# EAGLE library part SIC823 (library silicon-labs)
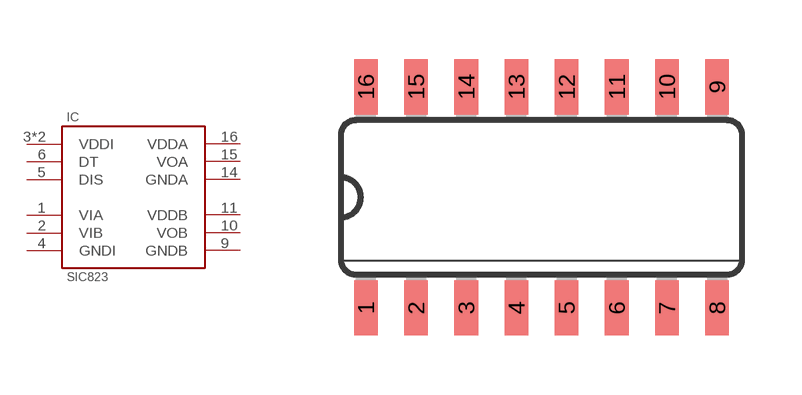
[diagram p0: symbol with the pads of SO16; footprint SO16]

Designator prefix IC

## SIC823N  [SO16]
1  VIA  pas
2  VIB  pas
3  VDDI  pas
4  GNDI  pas
5  DIS  pas
6  DT  pas
8  VDDI  pas
9  GNDB  pas
10  VOB  pas
11  VDDB  pas
14  GNDA  pas
15  VOA  pas
16  VDDA  pas

## Footprint SO16 (pad centres in mm)
Small Outline package 150 mil
smd 0.6 x 1.4: 1 -4.445,-2.8; 2 -3.175,-2.8; 3 -1.905,-2.8; 4 -0.635,-2.8; 5 0.635,-2.8; 6 1.905,-2.8; 7 3.175,-2.8; 8 4.445,-2.8; 9 4.445,2.8; 10 3.175,2.8; 11 1.905,2.8; 12 0.635,2.8; 13 -0.635,2.8; 14 -1.905,2.8; 15 -3.175,2.8; 16 -4.445,2.8